# EAGLE library part 74F1803 (library a3640_edu_v0.1)
CLOCK DRIVER SOIC D PACKAGE
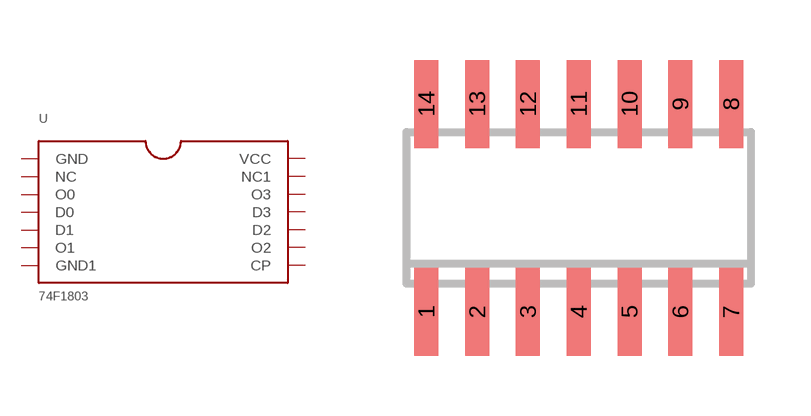
[diagram p12: symbol with the pads of 74F1803; footprint 74F1803]

Designator prefix -

## 74F1803  [74F1803]
1  GND
2  NC
3  O0
4  D0
5  D1  pwr
6  O1  pwr
7  GND1
8  CP
9  O2
10  D2
11  D3
12  O3
13  NC1
14  VCC  pwr

## Footprint 74F1803 (pad centres in mm)
smd 0.6 x 2.2: 1 -4.445,-2.6; 2 -3.175,-2.6; 3 -1.905,-2.6; 4 -0.635,-2.6; 5 0.635,-2.6; 6 1.905,-2.6; 7 3.175,-2.6; 8 3.175,2.6; 9 1.905,2.6; 10 0.635,2.6; 11 -0.635,2.6; 12 -1.905,2.6; 13 -3.175,2.6; 14 -4.445,2.6